# Altium schematic symbol library WE-FLYLT.SchLib: 42 symbols
Pins are listed as number, name and electrical type; pins without a type are passive.

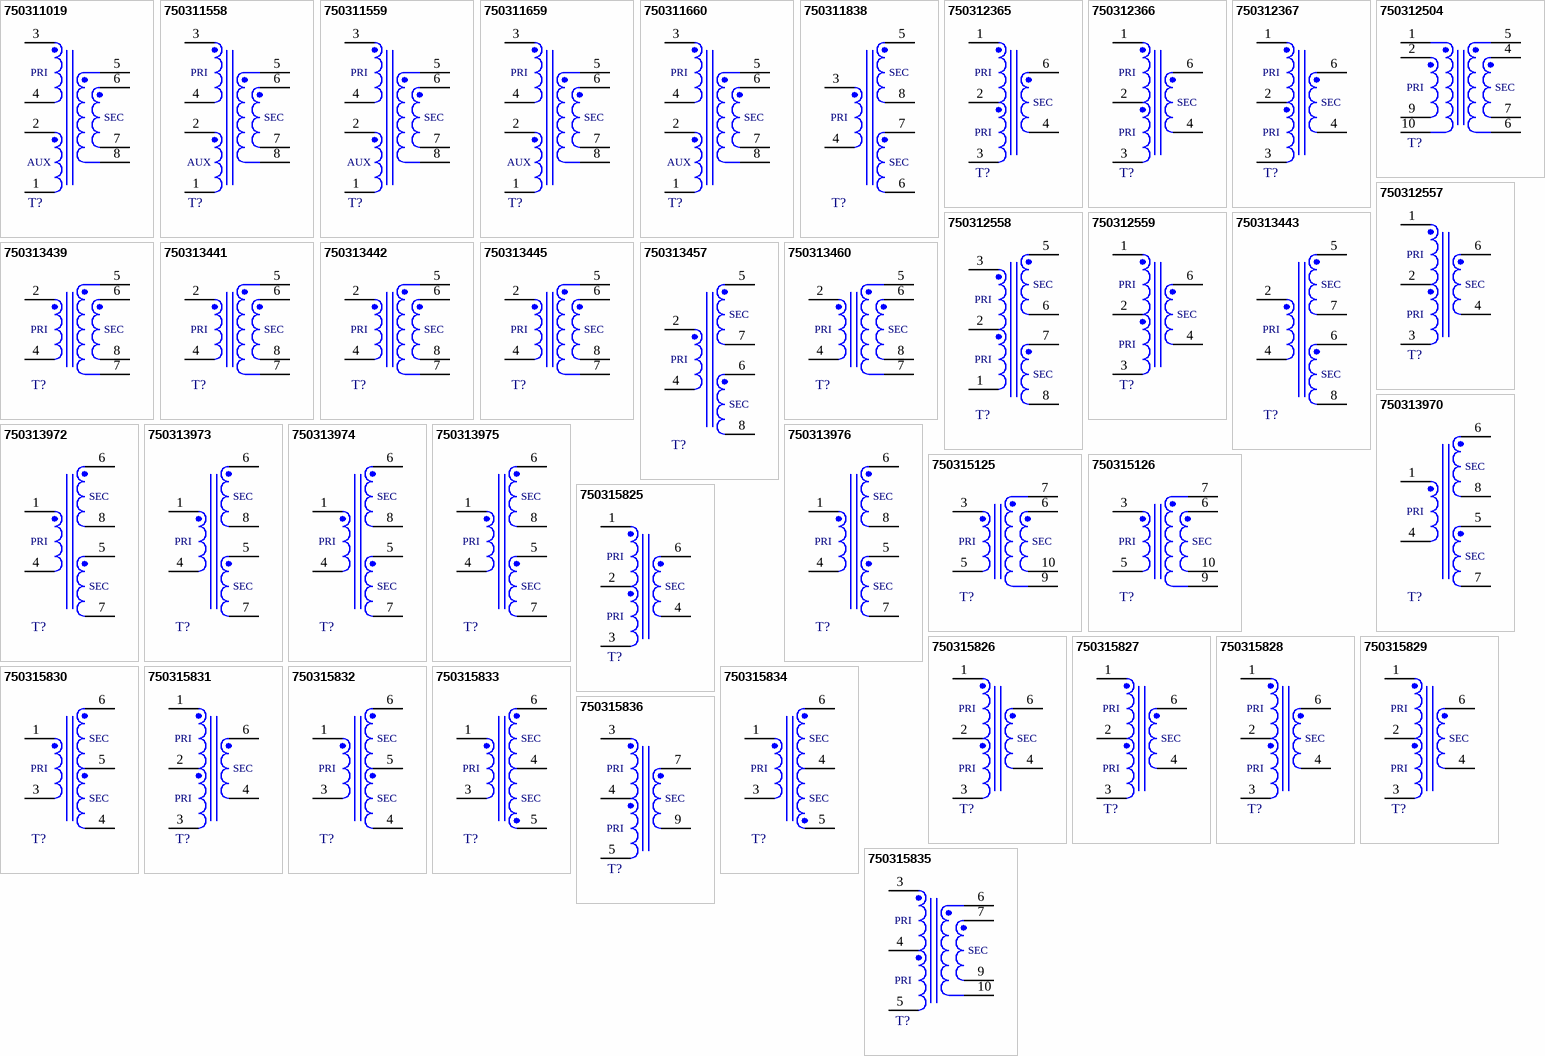
[diagram p0: symbols 750311019 to 750315836]

## 750311019
designator T?, comment Ui = 35-75V, Uo = 3.3V / 0.6A  (value not drawn)
WE-FLYLT Flyback Transformers for Linear Technology, SMT, EP7, Ui = 35-75V, Uo = 3.3V / 0.6A; Manufacturer Part Number: 750311019; Manufacturer: Wurth Elektronik; Auxiliary Voltage: 6.6V; IC Reference: LT8300; Inductance: 400µH; Input Voltage: 35-75VDC; Insulation Test Voltage: 1500VDC; Leakage Inductance: 8µH; Saturation Current: 0.75A; Turns Ratio: 6:1:2; Category: Transformers For DC-DC Converter; Match Code: WE-FLYLT; ComponentLink1Description: Website Link; ComponentLink1URL: https://www.we-online.com/redexpert/article/750311019?ad; ComponentLink2Description: Datasheet Link; ComponentLink2URL: https://www.we-online.com/redexpert/spec/750311019?ad; Mount: Surface Mount; Operating Temperature Max: 125°C; Operating Temperature Min: -40°C; Packaging: Tape and Reel; Case/Size Code: EP7; Length: 9.78mm; Width: 9.5mm; Height: 10.54mm; Output Current 1: 0.6A; Output Voltage 1: 3.3V
footprint WE-FLYLT_EP7_L9.78W9.50H10.54
simulation model 750311019
pins: 1, 2, 3, 4, 5, 6, 7, 8
text: PRI; SEC; AUX

## 750311558
designator T?, comment Ui = 35-75V, Uo = 5V / 0.4A  (value not drawn)
WE-FLYLT Flyback Transformers for Linear Technology, SMT, EP7, Ui = 35-75V, Uo = 5V / 0.4A; Manufacturer Part Number: 750311558; Manufacturer: Wurth Elektronik; IC Reference: LT8300; Inductance: 300µH; Input Voltage: 35-75VDC; Insulation Test Voltage: 1500VDC; Leakage Inductance: 3µH; Saturation Current: 0.5A; Turns Ratio: 4:1:1; Category: Transformers For DC-DC Converter; Match Code: WE-FLYLT; ComponentLink1Description: Website Link; ComponentLink1URL: https://www.we-online.com/redexpert/article/750311558?ad; ComponentLink2Description: Datasheet Link; ComponentLink2URL: https://www.we-online.com/redexpert/spec/750311558?ad; Mount: Surface Mount; Operating Temperature Max: 125°C; Operating Temperature Min: -40°C; Packaging: Tape and Reel; Case/Size Code: EP7; Length: 9.78mm; Width: 9.5mm; Height: 10.54mm; Auxiliary Voltage: 5V; Output Current 1: 0.4A; Output Voltage 1: 5V
footprint WE-FLYLT_EP7_L9.78W9.50H10.54
simulation model 750311558
pins: 1, 2, 3, 4, 5, 6, 7, 8
text: PRI; SEC; AUX

## 750311559
designator T?, comment Ui = 35-75V, Uo = 5V / 0.4A  (value not drawn)
WE-FLYLT Flyback Transformers for Linear Technology, SMT, EP7, Ui = 35-75V, Uo = 5V / 0.4A; Manufacturer Part Number: 750311559; Manufacturer: Wurth Elektronik; IC Reference: LT8300; Inductance: 175µH; Input Voltage: 35-75VDC; Insulation Test Voltage: 1500VDC; Leakage Inductance: 3µH; Saturation Current: 0.8A; Turns Ratio: 4:1:1; Category: Transformers For DC-DC Converter; Match Code: WE-FLYLT; ComponentLink1Description: Website Link; ComponentLink1URL: https://www.we-online.com/redexpert/article/750311559?ad; ComponentLink2Description: Datasheet Link; ComponentLink2URL: https://www.we-online.com/redexpert/spec/750311559?ad; Mount: Surface Mount; Operating Temperature Max: 125°C; Operating Temperature Min: -40°C; Packaging: Tape and Reel; Case/Size Code: EP7; Length: 9.78mm; Width: 9.5mm; Height: 10.54mm; Auxiliary Voltage: 5V; Output Current 1: 0.4A; Output Voltage 1: 5V
footprint WE-FLYLT_EP7_L9.78W9.50H10.54
simulation model 750311559
pins: 1, 2, 3, 4, 5, 6, 7, 8
text: PRI; SEC; AUX

## 750311659
designator T?, comment Ui = 36-72V, Uo = 24V / 0.08A  (value not drawn)
WE-FLYLT Flyback Transformers for Linear Technology, SMT, EP7, Ui = 36-72V, Uo = 24V / 0.08A; Manufacturer Part Number: 750311659; Manufacturer: Wurth Elektronik; Auxiliary Voltage: 5V; IC Reference: LT8300; Inductance: 300µH; Input Voltage: 36-72VDC; Insulation Test Voltage: 1500VDC; Leakage Inductance: 3µH; Saturation Current: 0.56A; Turns Ratio: 5:5:1; Category: Transformers For DC-DC Converter; Match Code: WE-FLYLT; ComponentLink1Description: Website Link; ComponentLink1URL: https://www.we-online.com/redexpert/article/750311659?ad; ComponentLink2Description: Datasheet Link; ComponentLink2URL: https://www.we-online.com/redexpert/spec/750311659?ad; Mount: Surface Mount; Operating Temperature Max: 125°C; Operating Temperature Min: -40°C; Packaging: Tape and Reel; Case/Size Code: EP7; Length: 9.78mm; Width: 9.5mm; Height: 10.54mm; Output Current 1: 0.08A; Output Voltage 1: 24V
footprint WE-FLYLT_EP7_L9.78W9.50H10.54
simulation model 750311659
pins: 1, 2, 3, 4, 5, 6, 7, 8
text: PRI; SEC; AUX

## 750311660
designator T?, comment Ui = 36-72V, Uo = 15V / 0.14A  (value not drawn)
WE-FLYLT Flyback Transformers for Linear Technology, SMT, EP7, Ui = 36-72V, Uo = 15V / 0.14A; Manufacturer Part Number: 750311660; Manufacturer: Wurth Elektronik; Auxiliary Voltage: 5V; IC Reference: LT8300; Inductance: 350µH; Input Voltage: 36-72VDC; Insulation Test Voltage: 1500VDC; Leakage Inductance: 4.5µH; Saturation Current: 0.52A; Turns Ratio: 6:3:1; Category: Transformers For DC-DC Converter; Match Code: WE-FLYLT; ComponentLink1Description: Website Link; ComponentLink1URL: https://www.we-online.com/redexpert/article/750311660?ad; ComponentLink2Description: Datasheet Link; ComponentLink2URL: https://www.we-online.com/redexpert/spec/750311660?ad; Mount: Surface Mount; Operating Temperature Max: 125°C; Operating Temperature Min: -40°C; Packaging: Tape and Reel; Case/Size Code: EP7; Length: 9.78mm; Width: 9.5mm; Height: 10.54mm; Output Current 1: 0.14A; Output Voltage 1: 15V
footprint WE-FLYLT_EP7_L9.78W9.50H10.54
simulation model 750311660
pins: 1, 2, 3, 4, 5, 6, 7, 8
text: PRI; SEC; AUX

## 750311838
designator T?, comment Ui = 36-72V, Uo1 = 15V / 0.07A, Uo2 = 15V / 0.7A  (value not drawn)
WE-FLYLT Flyback Transformers for Linear Technology, SMT, EP7, Ui = 36-72V, Uo1 = 15V / 0.07A, Uo2 = 15V / 0.7A; Manufacturer Part Number: 750311838; Manufacturer: Wurth Elektronik; IC Reference: LT8300; Inductance: 350µH; Input Voltage: 36-72VDC; Insulation Test Voltage: 1500VDC; Leakage Inductance: 4.5µH; Saturation Current: 0.52A; Turns Ratio: 2:1:1; Category: Transformers For DC-DC Converter; Match Code: WE-FLYLT; ComponentLink1Description: Website Link; ComponentLink1URL: https://www.we-online.com/redexpert/article/750311838?ad; ComponentLink2Description: Datasheet Link; ComponentLink2URL: https://www.we-online.com/redexpert/spec/750311838?ad; Mount: Surface Mount; Operating Temperature Max: 125°C; Operating Temperature Min: -40°C; Packaging: Tape and Reel; Case/Size Code: EP7; Length: 9.78mm; Width: 9.5mm; Height: 10.54mm; Output Current 1: 0.07A; Output Current 2: 0.7A; Output Voltage 1: 15V; Output Voltage 2: 15V
footprint WE-FLYLT_EP7_L9.78W9.50H10.54
simulation model 750311838
pins: 3, 4, 5, 6, 7, 8
text: SEC; PRI

## 750312365
designator T?, comment Ui = 30-72V, Uo = 12V / 0.3A  (value not drawn)
WE-FLYLT Flyback Transformers for Linear Technology, SMT, EP7, Ui = 30-72V, Uo = 12V / 0.3A; Manufacturer Part Number: 750312365; Manufacturer: Wurth Elektronik; IC Reference: LT8300; Inductance: 300µH; Input Voltage: 30-72VDC; Insulation Test Voltage: 1500VDC; Leakage Inductance: 4µH; Saturation Current: 0.6A; Turns Ratio: 4:1; Category: Transformers For DC-DC Converter; Match Code: WE-FLYLT; ComponentLink1Description: Website Link; ComponentLink1URL: https://www.we-online.com/redexpert/article/750312365?ad; ComponentLink2Description: Datasheet Link; ComponentLink2URL: https://www.we-online.com/redexpert/spec/750312365?ad; Mount: Surface Mount; Operating Temperature Max: 125°C; Operating Temperature Min: -40°C; Packaging: Tape and Reel; Case/Size Code: EP7; Length: 10.16mm; Width: 13.36mm; Height: 8.64mm; Output Current 1: 0.3A; Output Voltage 1: 12V
footprint WE-FLYLT_EP7_L10.16W13.36H8.64
simulation model 750312365
pins: 1, 2, 3, 4, 6
text: PRI; SEC

## 750312366
designator T?, comment Ui = 18-75V, Uo = 5V / 0.3A  (value not drawn)
WE-FLYLT Flyback Transformers for Linear Technology, SMT, EP7, Ui = 18-75V, Uo = 5V / 0.3A; Manufacturer Part Number: 750312366; Manufacturer: Wurth Elektronik; IC Reference: LT8300; Inductance: 400µH; Input Voltage: 18-75VDC; Insulation Test Voltage: 1500VDC; Leakage Inductance: 8µH; Saturation Current: 0.58A; Turns Ratio: 7.11:1; Category: Transformers For DC-DC Converter; Match Code: WE-FLYLT; ComponentLink1Description: Website Link; ComponentLink1URL: https://www.we-online.com/redexpert/article/750312366?ad; ComponentLink2Description: Datasheet Link; ComponentLink2URL: https://www.we-online.com/redexpert/spec/750312366?ad; Mount: Surface Mount; Operating Temperature Max: 125°C; Operating Temperature Min: -40°C; Packaging: Tape and Reel; Case/Size Code: EP7; Length: 10.16mm; Width: 13.36mm; Height: 8.64mm; Output Current 1: 0.3A; Output Voltage 1: 5V
footprint WE-FLYLT_EP7_L10.16W13.36H8.64
simulation model 750312366
pins: 1, 2, 3, 4, 6
text: PRI; SEC

## 750312367
designator T?, comment Ui = 22-72V, Uo = 3.3V / 0.5A  (value not drawn)
WE-FLYLT Flyback Transformers for Linear Technology, SMT, EP7, Ui = 22-72V, Uo = 3.3V / 0.5A; Manufacturer Part Number: 750312367; Manufacturer: Wurth Elektronik; IC Reference: LT8300; Inductance: 300µH; Input Voltage: 22-72VDC; Insulation Test Voltage: 1500VDC; Leakage Inductance: 4µH; Saturation Current: 0.45A; Turns Ratio: 8.4:1; Category: Transformers For DC-DC Converter; Match Code: WE-FLYLT; ComponentLink1Description: Website Link; ComponentLink1URL: https://www.we-online.com/redexpert/article/750312367?ad; ComponentLink2Description: Datasheet Link; ComponentLink2URL: https://www.we-online.com/redexpert/spec/750312367?ad; Mount: Surface Mount; Operating Temperature Max: 125°C; Operating Temperature Min: -40°C; Packaging: Tape and Reel; Case/Size Code: EP7; Length: 10.16mm; Width: 13.36mm; Height: 8.64mm; Output Current 1: 0.5A; Output Voltage 1: 3.3V
footprint WE-FLYLT_EP7_L10.16W13.36H8.64
simulation model 750312367
pins: 1, 2, 3, 4, 6
text: PRI; SEC

## 750312504
designator T?, comment Ui = 2-5.5V, Uo = 20V / 0.25A  (value not drawn)
WE-FLYLT Flyback Transformers for Linear Technology, SMT, EP13, Ui = 2-5.5V, Uo = 20V / 0.25A; Manufacturer Part Number: 750312504; Manufacturer: Wurth Elektronik; IC Reference: LTC3300; Inductance: 3.46µH; Input Voltage: 2-5.5VDC; Insulation Test Voltage: 500VDC; Leakage Inductance: 0.12µH; Saturation Current: 10.2A; Turns Ratio: 1:1; Category: Transformers For DC-DC Converter; Match Code: WE-FLYLT; ComponentLink1Description: Website Link; ComponentLink1URL: https://www.we-online.com/redexpert/article/750312504?ad; ComponentLink2Description: Datasheet Link; ComponentLink2URL: https://www.we-online.com/redexpert/spec/750312504?ad; Mount: Surface Mount; Operating Temperature Max: 125°C; Operating Temperature Min: -40°C; Packaging: Tape and Reel; Case/Size Code: EP13; Length: 13.46mm; Width: 17.75mm; Height: 12.7mm; Output Current 1: 0.25A; Output Voltage 1: 20V
footprint WE-FLYLT_EP13_L13.46W17.75H12.70
pins: 1, 2, 4, 5, 6, 7, 9, 10
text: PRI; SEC

## 750312557
designator T?, comment Ui = 36-72V, Uo = 5V / 0.38A  (value not drawn)
WE-FLYLT Flyback Transformers for Linear Technology, SMT, EP7, Ui = 36-72V, Uo = 5V / 0.38A; Manufacturer Part Number: 750312557; Manufacturer: Wurth Elektronik; IC Reference: LT8300; Inductance: 300µH; Input Voltage: 36-72VDC; Insulation Test Voltage: 1500VDC; Leakage Inductance: 5µH; Saturation Current: 0.45A; Turns Ratio: 6:1; Category: Transformers For DC-DC Converter; Match Code: WE-FLYLT; ComponentLink1Description: Website Link; ComponentLink1URL: https://www.we-online.com/redexpert/article/750312557?ad; ComponentLink2Description: Datasheet Link; ComponentLink2URL: https://www.we-online.com/redexpert/spec/750312557?ad; Mount: Surface Mount; Operating Temperature Max: 125°C; Operating Temperature Min: -40°C; Packaging: Tape and Reel; Case/Size Code: EP7; Length: 10.16mm; Width: 13.36mm; Height: 8.64mm; Output Current 1: 0.38A; Output Voltage 1: 5V
footprint WE-FLYLT_EP7_L10.16W13.36H8.64
simulation model 750312557
pins: 1, 2, 3, 4, 6
text: PRI; SEC

## 750312558
designator T?, comment Ui = 36-72V, Uo1 = 12V / 0.07A, Uo2 = 12V / 0.7A  (value not drawn)
WE-FLYLT Flyback Transformers for Linear Technology, SMT, EP7, Ui = 36-72V, Uo1 = 12V / 0.07A, Uo2 = 12V / 0.7A; Manufacturer Part Number: 750312558; Manufacturer: Wurth Elektronik; IC Reference: LT8300; Inductance: 300µH; Input Voltage: 36-72VDC; Insulation Test Voltage: 1500VDC; Leakage Inductance: 4µH; Saturation Current: 0.54A; Turns Ratio: 2:1:1; Category: Transformers For DC-DC Converter; Match Code: WE-FLYLT; ComponentLink1Description: Website Link; ComponentLink1URL: https://www.we-online.com/redexpert/article/750312558?ad; ComponentLink2Description: Datasheet Link; ComponentLink2URL: https://www.we-online.com/redexpert/spec/750312558?ad; Mount: Surface Mount; Operating Temperature Max: 125°C; Operating Temperature Min: -40°C; Packaging: Tape and Reel; Case/Size Code: EP7; Length: 9.78mm; Width: 9.5mm; Height: 10.54mm; Output Current 1: 0.07A; Output Current 2: 0.7A; Output Voltage 1: 12V; Output Voltage 2: 12V
footprint WE-FLYLT_EP7_L9.78W9.50H10.54
simulation model 750312558
pins: 1, 2, 3, 5, 6, 7, 8
text: SEC; PRI

## 750312559
designator T?, comment Ui = 36-72V, Uo = 24V / 0.07A  (value not drawn)
WE-FLYLT Flyback Transformers for Linear Technology, SMT, EP7, Ui = 36-72V, Uo = 24V / 0.07A; Manufacturer Part Number: 750312559; Manufacturer: Wurth Elektronik; IC Reference: LT8300; Inductance: 300µH; Input Voltage: 36-72VDC; Insulation Test Voltage: 1500VDC; Leakage Inductance: 4µH; Saturation Current: 0.45A; Turns Ratio: 1:1; Category: Transformers For DC-DC Converter; Match Code: WE-FLYLT; ComponentLink1Description: Website Link; ComponentLink1URL: https://www.we-online.com/redexpert/article/750312559?ad; ComponentLink2Description: Datasheet Link; ComponentLink2URL: https://www.we-online.com/redexpert/spec/750312559?ad; Mount: Surface Mount; Operating Temperature Max: 125°C; Operating Temperature Min: -40°C; Packaging: Tape and Reel; Case/Size Code: EP7; Length: 10.16mm; Width: 13.36mm; Height: 8.64mm; Output Current 1: 0.07A; Output Voltage 1: 24V
footprint WE-FLYLT_EP7_L10.16W13.36H8.64
simulation model 750312559
pins: 1, 2, 3, 4, 6
text: PRI; SEC

## 750313439
designator T?, comment Ui = 8-40V, Uo = 3.3V / 2A  (value not drawn)
WE-FLYLT Flyback Transformers for Linear Technology, SMT, EP10, Ui = 8-40V, Uo = 3.3V / 2A; Manufacturer Part Number: 750313439; Manufacturer: Wurth Elektronik; IC Reference: LT8302; Inductance: 12µH; Input Voltage: 8-40VDC; Insulation Test Voltage: 1500VDC; Leakage Inductance: 1.5µH; Saturation Current: 8A; Turns Ratio: 2:1; Category: Transformers For DC-DC Converter; Match Code: WE-FLYLT; ComponentLink1Description: Website Link; ComponentLink1URL: https://www.we-online.com/redexpert/article/750313439?ad; ComponentLink2Description: Datasheet Link; ComponentLink2URL: https://www.we-online.com/redexpert/spec/750313439?ad; Mount: Surface Mount; Operating Temperature Max: 125°C; Operating Temperature Min: -40°C; Packaging: Tape and Reel; Case/Size Code: EP10; Length: 12.5mm; Width: 15.24mm; Height: 11.43mm; Output Current 1: 2A; Output Voltage 1: 3.3V
footprint WE-FLYLT_EP10_L12.50W15.24H11.43
simulation model 750313439
pins: 2, 4, 5, 6, 7, 8
text: PRI; SEC

## 750313441
designator T?, comment Ui = 8-32V, Uo = 5V / 1.75A  (value not drawn)
WE-FLYLT Flyback Transformers for Linear Technology, SMT, EP10, Ui = 8-32V, Uo = 5V / 1.75A; Manufacturer Part Number: 750313441; Manufacturer: Wurth Elektronik; IC Reference: LT8302; Inductance: 9µH; Input Voltage: 8-32VDC; Insulation Test Voltage: 1500VDC; Leakage Inductance: 1.5µH; Saturation Current: 8A; Turns Ratio: 2:1; Category: Transformers For DC-DC Converter; Match Code: WE-FLYLT; ComponentLink1Description: Website Link; ComponentLink1URL: https://www.we-online.com/redexpert/article/750313441?ad; ComponentLink2Description: Datasheet Link; ComponentLink2URL: https://www.we-online.com/redexpert/spec/750313441?ad; Mount: Surface Mount; Operating Temperature Max: 125°C; Operating Temperature Min: -40°C; Packaging: Tape and Reel; Case/Size Code: EP10; Length: 12.5mm; Width: 15.24mm; Height: 11.43mm; Output Current 1: 1.75A; Output Voltage 1: 5V
footprint WE-FLYLT_EP10_L12.50W15.24H11.43
simulation model 750313441
pins: 2, 4, 5, 6, 7, 8
text: PRI; SEC

## 750313442
designator T?, comment Ui = 8-40V, Uo = 5V / 1.5A  (value not drawn)
WE-FLYLT Flyback Transformers for Linear Technology, SMT, EP10, Ui = 8-40V, Uo = 5V / 1.5A; Manufacturer Part Number: 750313442; Manufacturer: Wurth Elektronik; IC Reference: LT8302; Inductance: 12µH; Input Voltage: 8-40VDC; Insulation Test Voltage: 1500VDC; Leakage Inductance: 1.5µH; Saturation Current: 7.3A; Turns Ratio: 1.5:1; Category: Transformers For DC-DC Converter; Match Code: WE-FLYLT; ComponentLink1Description: Website Link; ComponentLink1URL: https://www.we-online.com/redexpert/article/750313442?ad; ComponentLink2Description: Datasheet Link; ComponentLink2URL: https://www.we-online.com/redexpert/spec/750313442?ad; Mount: Surface Mount; Operating Temperature Max: 125°C; Operating Temperature Min: -40°C; Packaging: Tape and Reel; Case/Size Code: EP10; Length: 12.5mm; Width: 15.24mm; Height: 11.43mm; Output Current 1: 1.5A; Output Voltage 1: 5V
footprint WE-FLYLT_EP10_L12.50W15.24H11.43
simulation model 750313442
pins: 2, 4, 5, 6, 7, 8
text: PRI; SEC

## 750313443
designator T?, comment Ui = 8-32V, Uo1 = 12V / 0.375A, Uo2 = 12V / 0.375A  (value not drawn)
WE-FLYLT Flyback Transformers for Linear Technology, SMT, EP10, Ui = 8-32V, Uo1 = 12V / 0.375A, Uo2 = 12V / 0.375A; Manufacturer Part Number: 750313443; Manufacturer: Wurth Elektronik; IC Reference: LT8302; Inductance: 9µH; Input Voltage: 8-32VDC; Insulation Test Voltage: 1500VDC; Leakage Inductance: 1µH; Saturation Current: 7.3A; Turns Ratio: 1:1:1; Category: Transformers For DC-DC Converter; Match Code: WE-FLYLT; ComponentLink1Description: Website Link; ComponentLink1URL: https://www.we-online.com/redexpert/article/750313443?ad; ComponentLink2Description: Datasheet Link; ComponentLink2URL: https://www.we-online.com/redexpert/spec/750313443?ad; Mount: Surface Mount; Operating Temperature Max: 125°C; Operating Temperature Min: -40°C; Packaging: Tape and Reel; Case/Size Code: EP10; Length: 12.5mm; Width: 15.24mm; Height: 11.43mm; Output Current 1: 0.375A; Output Current 2: 0.375A; Output Voltage 1: 12V; Output Voltage 2: 12V
footprint WE-FLYLT_EP10_L12.50W15.24H11.43
simulation model 750313443
pins: 2, 4, 5, 6, 7, 8
text: SEC; PRI

## 750313445
designator T?, comment Ui = 8-32V, Uo = 24V / 0.32A  (value not drawn)
WE-FLYLT Flyback Transformers for Linear Technology, SMT, EP10, Ui = 8-32V, Uo = 24V / 0.32A; Manufacturer Part Number: 750313445; Manufacturer: Wurth Elektronik; IC Reference: LT8302; Inductance: 9µH; Input Voltage: 8-32VDC; Insulation Test Voltage: 1500VDC; Leakage Inductance: 1µH; Saturation Current: 7.5A; Turns Ratio: 1:2; Category: Transformers For DC-DC Converter; Match Code: WE-FLYLT; ComponentLink1Description: Website Link; ComponentLink1URL: https://www.we-online.com/redexpert/article/750313445?ad; ComponentLink2Description: Datasheet Link; ComponentLink2URL: https://www.we-online.com/redexpert/spec/750313445?ad; Mount: Surface Mount; Operating Temperature Max: 125°C; Operating Temperature Min: -40°C; Packaging: Tape and Reel; Case/Size Code: EP10; Length: 12.5mm; Width: 15.24mm; Height: 11.43mm; Output Current 1: 0.32A; Output Voltage 1: 24V
footprint WE-FLYLT_EP10_L12.50W15.24H11.43
simulation model 750313445
pins: 2, 4, 5, 6, 7, 8
text: PRI; SEC

## 750313457
designator T?, comment Ui = 8-32V, Uo = 48V / 0.18A  (value not drawn)
WE-FLYLT Flyback Transformers for Linear Technology, SMT, EP10, Ui = 8-32V, Uo = 48V / 0.18A; Manufacturer Part Number: 750313457; Manufacturer: Wurth Elektronik; IC Reference: LT8302; Inductance: 9µH; Input Voltage: 8-32VDC; Insulation Test Voltage: 1500VDC; Leakage Inductance: 1µH; Saturation Current: 7.5A; Turns Ratio: 1:2:2; Category: Transformers For DC-DC Converter; Match Code: WE-FLYLT; ComponentLink1Description: Website Link; ComponentLink1URL: https://www.we-online.com/redexpert/article/750313457?ad; ComponentLink2Description: Datasheet Link; ComponentLink2URL: https://www.we-online.com/redexpert/spec/750313457?ad; Mount: Surface Mount; Operating Temperature Max: 125°C; Operating Temperature Min: -40°C; Packaging: Tape and Reel; Case/Size Code: EP10; Length: 12.5mm; Width: 15.24mm; Height: 11.43mm; Output Current 1: 0.18A; Output Voltage 1: 48V
footprint WE-FLYLT_EP10_L12.50W15.24H11.43
simulation model 750313457
pins: 2, 4, 5, 6, 7, 8
text: SEC; PRI

## 750313460
designator T?, comment Ui = 4-8V, Uo = 5V / 1.2A  (value not drawn)
WE-FLYLT Flyback Transformers for Linear Technology, SMT, EP10, Ui = 4-8V, Uo = 5V / 1.2A; Manufacturer Part Number: 750313460; Manufacturer: Wurth Elektronik; IC Reference: LT8302; Inductance: 12µH; Input Voltage: 4-8VDC; Insulation Test Voltage: 1500VDC; Leakage Inductance: 1.5µH; Saturation Current: 7.75A; Turns Ratio: 4:1; Category: Transformers For DC-DC Converter; Match Code: WE-FLYLT; ComponentLink1Description: Website Link; ComponentLink1URL: https://www.we-online.com/redexpert/article/750313460?ad; ComponentLink2Description: Datasheet Link; ComponentLink2URL: https://www.we-online.com/redexpert/spec/750313460?ad; Mount: Surface Mount; Operating Temperature Max: 125°C; Operating Temperature Min: -40°C; Packaging: Tape and Reel; Case/Size Code: EP10; Length: 12.5mm; Width: 15.24mm; Height: 11.43mm; Output Current 1: 1.2A; Output Voltage 1: 5V
footprint WE-FLYLT_EP10_L12.50W15.24H11.43
simulation model 750313460
pins: 2, 4, 5, 6, 7, 8
text: PRI; SEC

## 750313970
designator T?, comment Ui = 18-42V, Uo1 = 3.3V / 0.5A, Uo2 = 3.3V / 0.5A  (value not drawn)
WE-FLYLT Flyback Transformers for Linear Technology, SMT, EP10, Ui = 18-42V, Uo1 = 3.3V / 0.5A, Uo2 = 3.3V / 0.5A; Manufacturer Part Number: 750313970; Manufacturer: Wurth Elektronik; IC Reference: LT8301; Inductance: 40µH; Input Voltage: 18-42VDC; Insulation Test Voltage: 1500VDC; Leakage Inductance: 1µH; Saturation Current: 2A; Turns Ratio: 2:1:1; Category: Transformers For DC-DC Converter; Match Code: WE-FLYLT; ComponentLink1Description: Website Link; ComponentLink1URL: https://www.we-online.com/redexpert/article/750313970?ad; ComponentLink2Description: Datasheet Link; ComponentLink2URL: https://www.we-online.com/redexpert/spec/750313970?ad; Mount: Surface Mount; Operating Temperature Max: 125°C; Operating Temperature Min: -40°C; Packaging: Tape and Reel; Case/Size Code: EP10; Length: 13.34mm; Width: 15.24mm; Height: 11.43mm; Output Current 1: 0.5A; Output Current 2: 0.5A; Output Voltage 1: 3.3V; Output Voltage 2: 3.3V
footprint WE-FLYLT_EP10_L13.34W15.24H11.43
simulation model 750313970
pins: 1, 4, 5, 6, 7, 8
text: SEC; PRI

## 750313972
designator T?, comment Ui = 18-42V, Uo1 = 5V / 0.275A, Uo2 = 5V / 0.275A  (value not drawn)
WE-FLYLT Flyback Transformers for Linear Technology, SMT, EP10, Ui = 18-42V, Uo1 = 5V / 0.275A, Uo2 = 5V / 0.275A; Manufacturer Part Number: 750313972; Manufacturer: Wurth Elektronik; IC Reference: LT8301; Inductance: 40µH; Input Voltage: 18-42VDC; Insulation Test Voltage: 1500VDC; Leakage Inductance: 1µH; Saturation Current: 2A; Turns Ratio: 1:1:1; Category: Transformers For DC-DC Converter; Match Code: WE-FLYLT; ComponentLink1Description: Website Link; ComponentLink1URL: https://www.we-online.com/redexpert/article/750313972?ad; ComponentLink2Description: Datasheet Link; ComponentLink2URL: https://www.we-online.com/redexpert/spec/750313972?ad; Mount: Surface Mount; Operating Temperature Max: 125°C; Operating Temperature Min: -40°C; Packaging: Tape and Reel; Case/Size Code: EP10; Length: 13.34mm; Width: 15.24mm; Height: 11.43mm; Output Current 1: 0.275A; Output Current 2: 0.275A; Output Voltage 1: 5V; Output Voltage 2: 5V
footprint WE-FLYLT_EP10_L13.34W15.24H11.43
simulation model 750313972
pins: 1, 4, 5, 6, 7, 8
text: SEC; PRI

## 750313973
designator T?, comment Ui = 8-32V, Uo1 = 3.3V / 0.5A, Uo2 = 3.3V / 0.5A  (value not drawn)
WE-FLYLT Flyback Transformers for Linear Technology, SMT, EP10, Ui = 8-32V, Uo1 = 3.3V / 0.5A, Uo2 = 3.3V / 0.5A; Manufacturer Part Number: 750313973; Manufacturer: Wurth Elektronik; IC Reference: LT8301; Inductance: 40µH; Input Voltage: 8-32VDC; Insulation Test Voltage: 1500VDC; Leakage Inductance: 1µH; Saturation Current: 2A; Turns Ratio: 4:1:1; Category: Transformers For DC-DC Converter; Match Code: WE-FLYLT; ComponentLink1Description: Website Link; ComponentLink1URL: https://www.we-online.com/redexpert/article/750313973?ad; ComponentLink2Description: Datasheet Link; ComponentLink2URL: https://www.we-online.com/redexpert/spec/750313973?ad; Mount: Surface Mount; Operating Temperature Max: 125°C; Operating Temperature Min: -40°C; Packaging: Tape and Reel; Case/Size Code: EP10; Length: 13.34mm; Width: 15.24mm; Height: 11.43mm; Output Current 1: 0.5A; Output Current 2: 0.5A; Output Voltage 1: 3.3V; Output Voltage 2: 3.3V
footprint WE-FLYLT_EP10_L13.34W15.24H11.43
simulation model 750313973
pins: 1, 4, 5, 6, 7, 8
text: SEC; PRI

## 750313974
designator T?, comment Ui = 8-32V, Uo1 = 5V / 0.36A, Uo2 = 5V / 0.36A  (value not drawn)
WE-FLYLT Flyback Transformers for Linear Technology, SMT, EP10, Ui = 8-32V, Uo1 = 5V / 0.36A, Uo2 = 5V / 0.36A; Manufacturer Part Number: 750313974; Manufacturer: Wurth Elektronik; IC Reference: LT8301; Inductance: 40µH; Input Voltage: 8-32VDC; Insulation Test Voltage: 1500VDC; Leakage Inductance: 1µH; Saturation Current: 2A; Turns Ratio: 3:1:1; Category: Transformers For DC-DC Converter; Match Code: WE-FLYLT; ComponentLink1Description: Website Link; ComponentLink1URL: https://www.we-online.com/redexpert/article/750313974?ad; ComponentLink2Description: Datasheet Link; ComponentLink2URL: https://www.we-online.com/redexpert/spec/750313974?ad; Mount: Surface Mount; Operating Temperature Max: 125°C; Operating Temperature Min: -40°C; Packaging: Tape and Reel; Case/Size Code: EP10; Length: 13.34mm; Width: 15.24mm; Height: 11.43mm; Output Current 1: 0.36A; Output Current 2: 0.36A; Output Voltage 1: 5V; Output Voltage 2: 5V
footprint WE-FLYLT_EP10_L13.34W15.24H11.43
simulation model 750313974
pins: 1, 4, 5, 6, 7, 8
text: SEC; PRI

## 750313975
designator T?, comment Ui = 8-32V, Uo1 = 24V / 0.07A, Uo2 = 24V / 0.7A  (value not drawn)
WE-FLYLT Flyback Transformers for Linear Technology, SMT, EP10, Ui = 8-32V, Uo1 = 24V / 0.07A, Uo2 = 24V / 0.7A; Manufacturer Part Number: 750313975; Manufacturer: Wurth Elektronik; IC Reference: LT8301; Inductance: 40µH; Input Voltage: 8-32VDC; Insulation Test Voltage: 1500VDC; Leakage Inductance: 1µH; Saturation Current: 2A; Turns Ratio: 1:2:2; Category: Transformers For DC-DC Converter; Match Code: WE-FLYLT; ComponentLink1Description: Website Link; ComponentLink1URL: https://www.we-online.com/redexpert/article/750313975?ad; ComponentLink2Description: Datasheet Link; ComponentLink2URL: https://www.we-online.com/redexpert/spec/750313975?ad; Mount: Surface Mount; Operating Temperature Max: 125°C; Operating Temperature Min: -40°C; Packaging: Tape and Reel; Case/Size Code: EP10; Length: 13.34mm; Width: 15.24mm; Height: 11.43mm; Output Current 1: 0.07A; Output Current 2: 0.7A; Output Voltage 1: 24V; Output Voltage 2: 24V
footprint WE-FLYLT_EP10_L13.34W15.24H11.43
simulation model 750313975
pins: 1, 4, 5, 6, 7, 8
text: SEC; PRI

## 750313976
designator T?, comment Ui = 8-32V, Uo1 = 48V / 0.035A, Uo2 = 48V / 0.35A  (value not drawn)
WE-FLYLT Flyback Transformers for Linear Technology, SMT, EP10, Ui = 8-32V, Uo1 = 48V / 0.035A, Uo2 = 48V / 0.35A; Manufacturer Part Number: 750313976; Manufacturer: Wurth Elektronik; IC Reference: LT8301; Inductance: 40µH; Input Voltage: 8-32VDC; Insulation Test Voltage: 1500VDC; Leakage Inductance: 1µH; Saturation Current: 2A; Turns Ratio: 1:4:4; Category: Transformers For DC-DC Converter; Match Code: WE-FLYLT; ComponentLink1Description: Website Link; ComponentLink1URL: https://www.we-online.com/redexpert/article/750313976?ad; ComponentLink2Description: Datasheet Link; ComponentLink2URL: https://www.we-online.com/redexpert/spec/750313976?ad; Mount: Surface Mount; Operating Temperature Max: 125°C; Operating Temperature Min: -40°C; Packaging: Tape and Reel; Case/Size Code: EP10; Length: 13.34mm; Width: 15.24mm; Height: 11.43mm; Output Current 1: 0.035A; Output Current 2: 0.35A; Output Voltage 1: 48V; Output Voltage 2: 48V
footprint WE-FLYLT_EP10_L13.34W15.24H11.43
simulation model 750313976
pins: 1, 4, 5, 6, 7, 8
text: SEC; PRI

## 750315125
designator T?, comment Ui = 18-72V, Uo = 5V / 4.5A  (value not drawn)
WE-FLYLT Flyback Transformers for Linear Technology, SMT, EP13, Ui = 18-72V, Uo = 5V / 4.5A; Manufacturer Part Number: 750315125; Manufacturer: Wurth Elektronik; IC Reference: LT8304; Inductance: 40µH; Input Voltage: 18-72VDC; Insulation Test Voltage: 1500VDC; Leakage Inductance: 2µH; Saturation Current: 3.8A; Turns Ratio: 6:1; Category: Transformers For DC-DC Converter; Match Code: WE-FLYLT; ComponentLink1Description: Website Link; ComponentLink1URL: https://www.we-online.com/redexpert/article/750315125?ad; ComponentLink2Description: Datasheet Link; ComponentLink2URL: https://www.we-online.com/redexpert/spec/750315125?ad; Mount: Surface Mount; Operating Temperature Max: 125°C; Operating Temperature Min: -40°C; Packaging: Tape and Reel; Case/Size Code: EP13; Length: 13.46mm; Width: 17.75mm; Height: 12.7mm; Output Current 1: 4.5A; Output Voltage 1: 5V
footprint WE-FLYLT_EP13_L13.46W17.75H12.70
simulation model 750315125
pins: 3, 5, 6, 7, 9, 10
text: PRI; SEC

## 750315126
designator T?, comment Ui = 36-72V, Uo = 12V / 1.25A  (value not drawn)
WE-FLYLT Flyback Transformers for Linear Technology, SMT, EP13, Ui = 36-72V, Uo = 12V / 1.25A; Manufacturer Part Number: 750315126; Manufacturer: Wurth Elektronik; IC Reference: LT8304; Inductance: 40µH; Input Voltage: 36-72VDC; Insulation Test Voltage: 1500VDC; Leakage Inductance: 1µH; Saturation Current: 3.8A; Turns Ratio: 2:1; Category: Transformers For DC-DC Converter; Match Code: WE-FLYLT; ComponentLink1Description: Website Link; ComponentLink1URL: https://www.we-online.com/redexpert/article/750315126?ad; ComponentLink2Description: Datasheet Link; ComponentLink2URL: https://www.we-online.com/redexpert/spec/750315126?ad; Mount: Surface Mount; Operating Temperature Max: 125°C; Operating Temperature Min: -40°C; Packaging: Tape and Reel; Case/Size Code: EP13; Length: 13.46mm; Width: 17.75mm; Height: 12.7mm; Output Current 1: 1.25A; Output Voltage 1: 12V
footprint WE-FLYLT_EP13_L13.46W17.75H12.70
simulation model 750315126
pins: 3, 5, 6, 7, 9, 10
text: PRI; SEC

## 750315825
designator T?, comment Ui = 36-72V, Uo = 3.3V / 1A  (value not drawn)
WE-FLYLT Flyback Transformers for Linear Technology, SMT, EP7, Ui = 36-72V, Uo = 3.3V / 1A; Manufacturer Part Number: 750315825; Manufacturer: Wurth Elektronik; IC Reference: LT8303; Inductance: 150µH; Input Voltage: 36-72VDC; Insulation Test Voltage: 1500VDC; Leakage Inductance: 6µH; Saturation Current: 0.9A; Turns Ratio: 8:1; Category: Transformers For DC-DC Converter; Match Code: WE-FLYLT; ComponentLink1Description: Website Link; ComponentLink1URL: https://www.we-online.com/redexpert/article/750315825?ad; ComponentLink2Description: Datasheet Link; ComponentLink2URL: https://www.we-online.com/redexpert/spec/750315825?ad; Mount: Surface Mount; Operating Temperature Max: 125°C; Operating Temperature Min: -40°C; Packaging: Tape and Reel; Case/Size Code: EP7; Length: 10.16mm; Width: 13.36mm; Height: 9.14mm; Output Current 1: 1A; Output Voltage 1: 3.3V
footprint WE-FLYLT_EP7_L10.16W13.36H9.14
simulation model 750315825
pins: 1, 2, 3, 4, 6
text: PRI; SEC

## 750315826
designator T?, comment Ui = 36-72V, Uo = 5V / 0.72A  (value not drawn)
WE-FLYLT Flyback Transformers for Linear Technology, SMT, EP7, Ui = 36-72V, Uo = 5V / 0.72A; Manufacturer Part Number: 750315826; Manufacturer: Wurth Elektronik; IC Reference: LT8303; Inductance: 150µH; Input Voltage: 36-72VDC; Insulation Test Voltage: 1500VDC; Leakage Inductance: 4µH; Saturation Current: 0.9A; Turns Ratio: 6:1; Category: Transformers For DC-DC Converter; Match Code: WE-FLYLT; ComponentLink1Description: Website Link; ComponentLink1URL: https://www.we-online.com/redexpert/article/750315826?ad; ComponentLink2Description: Datasheet Link; ComponentLink2URL: https://www.we-online.com/redexpert/spec/750315826?ad; Mount: Surface Mount; Operating Temperature Max: 125°C; Operating Temperature Min: -40°C; Packaging: Tape and Reel; Case/Size Code: EP7; Length: 10.16mm; Width: 13.36mm; Height: 9.14mm; Output Current 1: 0.72A; Output Voltage 1: 5V
footprint WE-FLYLT_EP7_L10.16W13.36H9.14
simulation model 750315826
pins: 1, 2, 3, 4, 6
text: PRI; SEC

## 750315827
designator T?, comment Ui = 36-72V, Uo = 5V / 0.58A  (value not drawn)
WE-FLYLT Flyback Transformers for Linear Technology, SMT, EP7, Ui = 36-72V, Uo = 5V / 0.58A; Manufacturer Part Number: 750315827; Manufacturer: Wurth Elektronik; IC Reference: LT8303; Inductance: 150µH; Input Voltage: 36-72VDC; Insulation Test Voltage: 1500VDC; Leakage Inductance: 3.6µH; Saturation Current: 0.8A; Turns Ratio: 4:1; Category: Transformers For DC-DC Converter; Match Code: WE-FLYLT; ComponentLink1Description: Website Link; ComponentLink1URL: https://www.we-online.com/redexpert/article/750315827?ad; ComponentLink2Description: Datasheet Link; ComponentLink2URL: https://www.we-online.com/redexpert/spec/750315827?ad; Mount: Surface Mount; Operating Temperature Max: 125°C; Operating Temperature Min: -40°C; Packaging: Tape and Reel; Case/Size Code: EP7; Length: 10.16mm; Width: 13.36mm; Height: 9.14mm; Output Current 1: 0.58A; Output Voltage 1: 5V
footprint WE-FLYLT_EP7_L10.16W13.36H9.14
simulation model 750315827
pins: 1, 2, 3, 4, 6
text: PRI; SEC

## 750315828
designator T?, comment Ui = 36-72V, Uo = 12V / 0.26A  (value not drawn)
WE-FLYLT Flyback Transformers for Linear Technology, SMT, EP7, Ui = 36-72V, Uo = 12V / 0.26A; Manufacturer Part Number: 750315828; Manufacturer: Wurth Elektronik; IC Reference: LT8303; Inductance: 150µH; Input Voltage: 36-72VDC; Insulation Test Voltage: 1500VDC; Leakage Inductance: 3.2µH; Saturation Current: 0.8A; Turns Ratio: 2:1; Category: Transformers For DC-DC Converter; Match Code: WE-FLYLT; ComponentLink1Description: Website Link; ComponentLink1URL: https://www.we-online.com/redexpert/article/750315828?ad; ComponentLink2Description: Datasheet Link; ComponentLink2URL: https://www.we-online.com/redexpert/spec/750315828?ad; Mount: Surface Mount; Operating Temperature Max: 125°C; Operating Temperature Min: -40°C; Packaging: Tape and Reel; Case/Size Code: EP7; Length: 10.16mm; Width: 13.36mm; Height: 9.14mm; Output Current 1: 0.26A; Output Voltage 1: 12V
footprint WE-FLYLT_EP7_L10.16W13.36H9.14
simulation model 750315828
pins: 1, 2, 3, 4, 6
text: PRI; SEC

## 750315829
designator T?, comment Ui = 36-72V, Uo = 24V / 0.13A  (value not drawn)
WE-FLYLT Flyback Transformers for Linear Technology, SMT, EP7, Ui = 36-72V, Uo = 24V / 0.13A; Manufacturer Part Number: 750315829; Manufacturer: Wurth Elektronik; IC Reference: LT8303; Inductance: 150µH; Input Voltage: 36-72VDC; Insulation Test Voltage: 1500VDC; Leakage Inductance: 3µH; Saturation Current: 0.8A; Turns Ratio: 1:1; Category: Transformers For DC-DC Converter; Match Code: WE-FLYLT; ComponentLink1Description: Website Link; ComponentLink1URL: https://www.we-online.com/redexpert/article/750315829?ad; ComponentLink2Description: Datasheet Link; ComponentLink2URL: https://www.we-online.com/redexpert/spec/750315829?ad; Mount: Surface Mount; Operating Temperature Max: 125°C; Operating Temperature Min: -40°C; Packaging: Tape and Reel; Case/Size Code: EP7; Length: 10.16mm; Width: 13.36mm; Height: 9.14mm; Output Current 1: 0.13A; Output Voltage 1: 24V
footprint WE-FLYLT_EP7_L10.16W13.36H9.14
simulation model 750315829
pins: 1, 2, 3, 4, 6
text: PRI; SEC

## 750315830
designator T?, comment Ui = 36-72V, Uo = 48V / 0.06A  (value not drawn)
WE-FLYLT Flyback Transformers for Linear Technology, SMT, EP7, Ui = 36-72V, Uo = 48V / 0.06A; Manufacturer Part Number: 750315830; Manufacturer: Wurth Elektronik; IC Reference: LT8303; Inductance: 150µH; Input Voltage: 36-72VDC; Insulation Test Voltage: 1500VDC; Leakage Inductance: 3.8µH; Saturation Current: 0.8A; Turns Ratio: 1:2; Category: Transformers For DC-DC Converter; Match Code: WE-FLYLT; ComponentLink1Description: Website Link; ComponentLink1URL: https://www.we-online.com/redexpert/article/750315830?ad; ComponentLink2Description: Datasheet Link; ComponentLink2URL: https://www.we-online.com/redexpert/spec/750315830?ad; Mount: Surface Mount; Operating Temperature Max: 125°C; Operating Temperature Min: -40°C; Packaging: Tape and Reel; Case/Size Code: EP7; Length: 10.16mm; Width: 13.36mm; Height: 9.14mm; Output Current 1: 0.06A; Output Voltage 1: 48V
footprint WE-FLYLT_EP7_L10.16W13.36H9.14
simulation model 750315830
pins: 1, 3, 4, 5, 6
text: SEC; PRI

## 750315831
designator T?, comment Ui = 9-36V, Uo = 5V / 0.35A  (value not drawn)
WE-FLYLT Flyback Transformers for Linear Technology, SMT, EP7, Ui = 9-36V, Uo = 5V / 0.35A; Manufacturer Part Number: 750315831; Manufacturer: Wurth Elektronik; IC Reference: LT8303; Inductance: 150µH; Input Voltage: 9-36VDC; Insulation Test Voltage: 1500VDC; Leakage Inductance: 8µH; Saturation Current: 0.8A; Turns Ratio: 10:1; Category: Transformers For DC-DC Converter; Match Code: WE-FLYLT; ComponentLink1Description: Website Link; ComponentLink1URL: https://www.we-online.com/redexpert/article/750315831?ad; ComponentLink2Description: Datasheet Link; ComponentLink2URL: https://www.we-online.com/redexpert/spec/750315831?ad; Mount: Surface Mount; Operating Temperature Max: 125°C; Operating Temperature Min: -40°C; Packaging: Tape and Reel; Case/Size Code: EP7; Length: 10.16mm; Width: 13.36mm; Height: 9.14mm; Output Current 1: 0.35A; Output Voltage 1: 5V
footprint WE-FLYLT_EP7_L10.16W13.36H9.14
simulation model 750315831
pins: 1, 2, 3, 4, 6
text: PRI; SEC

## 750315832
designator T?, comment Ui = 9-36V, Uo = 100V / 0.015A  (value not drawn)
WE-FLYLT Flyback Transformers for Linear Technology, SMT, EP7, Ui = 9-36V, Uo = 100V / 0.015A; Manufacturer Part Number: 750315832; Manufacturer: Wurth Elektronik; IC Reference: LT8303; Inductance: 150µH; Input Voltage: 9-36VDC; Insulation Test Voltage: 1500VDC; Leakage Inductance: 3.4µH; Saturation Current: 0.8A; Turns Ratio: 1:4; Category: Transformers For DC-DC Converter; Match Code: WE-FLYLT; ComponentLink1Description: Website Link; ComponentLink1URL: https://www.we-online.com/redexpert/article/750315832?ad; ComponentLink2Description: Datasheet Link; ComponentLink2URL: https://www.we-online.com/redexpert/spec/750315832?ad; Mount: Surface Mount; Operating Temperature Max: 125°C; Operating Temperature Min: -40°C; Packaging: Tape and Reel; Case/Size Code: EP7; Length: 10.16mm; Width: 13.36mm; Height: 9.14mm; Output Current 1: 0.015A; Output Voltage 1: 100V
footprint WE-FLYLT_EP7_L10.16W13.36H9.14
simulation model 750315832
pins: 1, 3, 4, 5, 6
text: SEC; PRI

## 750315833
designator T?, comment Ui = 36-72V, Uo1 = 12V / 0.13A, Uo2 = 12V / 0.13A  (value not drawn)
WE-FLYLT Flyback Transformers for Linear Technology, SMT, EP7, Ui = 36-72V, Uo1 = 12V / 0.13A, Uo2 = 12V / 0.13A; Manufacturer Part Number: 750315833; Manufacturer: Wurth Elektronik; IC Reference: LT8303; Inductance: 150µH; Input Voltage: 36-72VDC; Insulation Test Voltage: 1500VDC; Leakage Inductance: 3µH; Saturation Current: 0.8A; Turns Ratio: 2:1:1; Category: Transformers For DC-DC Converter; Match Code: WE-FLYLT; ComponentLink1Description: Website Link; ComponentLink1URL: https://www.we-online.com/redexpert/article/750315833?ad; ComponentLink2Description: Datasheet Link; ComponentLink2URL: https://www.we-online.com/redexpert/spec/750315833?ad; Mount: Surface Mount; Operating Temperature Max: 125°C; Operating Temperature Min: -40°C; Packaging: Tape and Reel; Case/Size Code: EP7; Length: 10.16mm; Width: 13.36mm; Height: 9.14mm; Output Current 1: 0.13A; Output Current 2: 0.13A; Output Voltage 1: 12V; Output Voltage 2: 12V
footprint WE-FLYLT_EP7_L10.16W13.36H9.14
simulation model 750315833
pins: 1, 3, 4, 5, 6
text: SEC; PRI

## 750315834
designator T?, comment Ui = 36-72V, Uo1 = 5V / 0.35A, Uo2 = 5V / 0.35A  (value not drawn)
WE-FLYLT Flyback Transformers for Linear Technology, SMT, EP7, Ui = 36-72V, Uo1 = 5V / 0.35A, Uo2 = 5V / 0.35A; Manufacturer Part Number: 750315834; Manufacturer: Wurth Elektronik; IC Reference: LT8303; Inductance: 150µH; Input Voltage: 36-72VDC; Insulation Test Voltage: 1500VDC; Leakage Inductance: 5.2µH; Saturation Current: 0.8A; Turns Ratio: 6:1:1; Category: Transformers For DC-DC Converter; Match Code: WE-FLYLT; ComponentLink1Description: Website Link; ComponentLink1URL: https://www.we-online.com/redexpert/article/750315834?ad; ComponentLink2Description: Datasheet Link; ComponentLink2URL: https://www.we-online.com/redexpert/spec/750315834?ad; Mount: Surface Mount; Operating Temperature Max: 125°C; Operating Temperature Min: -40°C; Packaging: Tape and Reel; Case/Size Code: EP7; Length: 10.16mm; Width: 13.36mm; Height: 9.14mm; Output Current 1: 0.35A; Output Current 2: 0.35A; Output Voltage 1: 5V; Output Voltage 2: 5V
footprint WE-FLYLT_EP7_L10.16W13.36H9.14
simulation model 750315834
pins: 1, 3, 4, 5, 6
text: SEC; PRI

## 750315835
designator T?, comment Ui = 36-75V, Uo = 3.3V / 4.8A  (value not drawn)
WE-FLYLT Flyback Transformers for Linear Technology, SMT, EP13, Ui = 36-75V, Uo = 3.3V / 4.8A; Manufacturer Part Number: 750315835; Manufacturer: Wurth Elektronik; IC Reference: LT8304; Inductance: 40µH; Input Voltage: 36-75VDC; Insulation Test Voltage: 1500VDC; Leakage Inductance: 2µH; Saturation Current: 3.2A; Turns Ratio: 8:1; Category: Transformers For DC-DC Converter; Match Code: WE-FLYLT; ComponentLink1Description: Website Link; ComponentLink1URL: https://www.we-online.com/redexpert/article/750315835?ad; ComponentLink2Description: Datasheet Link; ComponentLink2URL: https://www.we-online.com/redexpert/spec/750315835?ad; Mount: Surface Mount; Operating Temperature Max: 125°C; Operating Temperature Min: -40°C; Packaging: Tape and Reel; Case/Size Code: EP13; Length: 13.46mm; Width: 17.75mm; Height: 12.7mm; Output Current 1: 4.8A; Output Voltage 1: 3.3V
footprint WE-FLYLT_EP13_L13.46W17.75H12.70
simulation model 750315835
pins: 3, 4, 5, 6, 7, 9, 10
text: PRI; SEC

## 750315836
designator T?, comment Ui = 36-75V, Uo = 24V / 0.6A  (value not drawn)
WE-FLYLT Flyback Transformers for Linear Technology, SMT, EP13, Ui = 36-75V, Uo = 24V / 0.6A; Manufacturer Part Number: 750315836; Manufacturer: Wurth Elektronik; IC Reference: LT8304; Inductance: 40µH; Input Voltage: 36-75VDC; Insulation Test Voltage: 1500VDC; Leakage Inductance: 0.9µH; Saturation Current: 3.2A; Turns Ratio: 1:1; Category: Transformers For DC-DC Converter; Match Code: WE-FLYLT; ComponentLink1Description: Website Link; ComponentLink1URL: https://www.we-online.com/redexpert/article/750315836?ad; ComponentLink2Description: Datasheet Link; ComponentLink2URL: https://www.we-online.com/redexpert/spec/750315836?ad; Mount: Surface Mount; Operating Temperature Max: 125°C; Operating Temperature Min: -40°C; Packaging: Tape and Reel; Case/Size Code: EP13; Length: 13.46mm; Width: 17.75mm; Height: 12.7mm; Output Current 1: 0.6A; Output Voltage 1: 24V
footprint WE-FLYLT_EP13_L13.46W17.75H12.70
simulation model 750315836
pins: 3, 4, 5, 7, 9
text: PRI; SEC

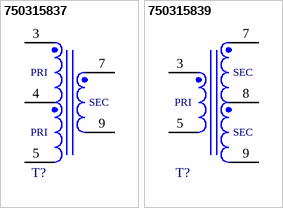
[diagram p1: symbols 750315837 to 750315839]

## 750315837
designator T?, comment Ui = 36-75V, Uo = 48V / 0.3A  (value not drawn)
WE-FLYLT Flyback Transformers for Linear Technology, SMT, EP13, Ui = 36-75V, Uo = 48V / 0.3A; Manufacturer Part Number: 750315837; Manufacturer: Wurth Elektronik; IC Reference: LT8304; Inductance: 40µH; Input Voltage: 36-75VDC; Insulation Test Voltage: 1500VDC; Leakage Inductance: 1µH; Saturation Current: 3.2A; Turns Ratio: 1:2; Category: Transformers For DC-DC Converter; Match Code: WE-FLYLT; ComponentLink1Description: Website Link; ComponentLink1URL: https://www.we-online.com/redexpert/article/750315837?ad; ComponentLink2Description: Datasheet Link; ComponentLink2URL: https://www.we-online.com/redexpert/spec/750315837?ad; Mount: Surface Mount; Operating Temperature Max: 125°C; Operating Temperature Min: -40°C; Packaging: Tape and Reel; Case/Size Code: EP13; Length: 13.46mm; Width: 17.75mm; Height: 12.7mm; Output Current 1: 0.3A; Output Voltage 1: 48V
footprint WE-FLYLT_EP13_L13.46W17.75H12.70
simulation model 750315837
pins: 3, 4, 5, 7, 9
text: PRI; SEC

## 750315839
designator T?, comment Ui = 4-36V, Uo = 200V / 0.012A  (value not drawn)
WE-FLYLT Flyback Transformers for Linear Technology, SMT, EP13, Ui = 4-36V, Uo = 200V / 0.012A; Manufacturer Part Number: 750315839; Manufacturer: Wurth Elektronik; IC Reference: LT8304; Inductance: 40µH; Input Voltage: 4-36VDC; Insulation Test Voltage: 1500VDC; Leakage Inductance: 0.5µH; Saturation Current: 3.2A; Turns Ratio: 1:10; Category: Transformers For DC-DC Converter; Match Code: WE-FLYLT; ComponentLink1Description: Website Link; ComponentLink1URL: https://www.we-online.com/redexpert/article/750315839?ad; ComponentLink2Description: Datasheet Link; ComponentLink2URL: https://www.we-online.com/redexpert/spec/750315839?ad; Mount: Surface Mount; Operating Temperature Max: 125°C; Operating Temperature Min: -40°C; Packaging: Tape and Reel; Case/Size Code: EP13; Length: 13.46mm; Width: 17.75mm; Height: 12.7mm; Output Current 1: 0.012A; Output Voltage 1: 200V
footprint WE-FLYLT_EP13_L13.46W17.75H12.70
simulation model 750315839
pins: 3, 5, 7, 8, 9
text: SEC; PRI